# EAGLE library part 74HC00BQ,115 (library NXP_By_element14_Batch_1)
Quad 2-input NAND gate
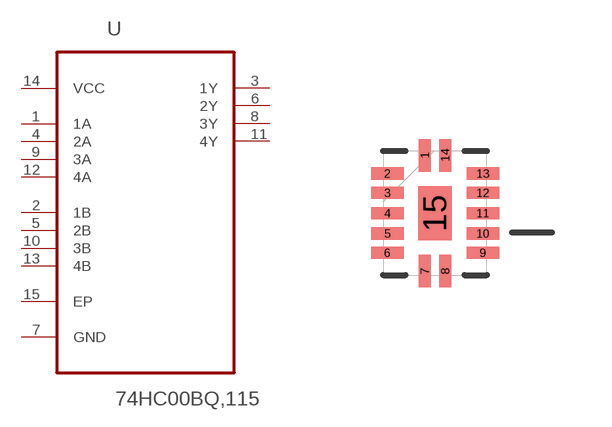
[diagram p6: symbol with the pads of QFN50PX250X300X100-15N; footprint QFN50PX250X300X100-15N]

Designator prefix U

## 74HC00BQ,115 (MPN: 74HC00BQ,115; OC_FARNELL: 1821173; OC_NEWARK: 71R1896; P1I: o; PACKAGE: DHVQFN-14; SUPPLIER: NXP)  [QFN50PX250X300X100-15N]
1  1A  in
2  1B  in
3  1Y  out
4  2A  in
5  2B  in
6  2Y  out
7  GND  pas
8  3Y  out
9  3A  in
10  3B  in
11  4Y  out
12  4A  in
13  4B  in
14  VCC  pwr
15  EP  pas

## Footprint QFN50PX250X300X100-15N (pad centres in mm)
smd 0.305 x 0.813: 1 -0.254,1.448; 7 -0.254,-1.448; 8 0.254,-1.448; 14 0.254,1.448
smd 0.813 x 0.305: 2 -1.194,0.991; 3 -1.194,0.508; 4 -1.194,0; 5 -1.194,-0.508; 6 -1.194,-0.991; 9 1.194,-0.991; 10 1.194,-0.508; 11 1.194,0; 12 1.194,0.508; 13 1.194,0.991
smd 0.838 x 1.346: 15 0,0